# Altium footprint library KC2520K24P5760C1GE00.PcbLib: 1 footprints
Each footprint in its own frame and in the unit in brackets; x right, y up, seen from the top. Pads: shape width x height; smd on the part's side, far side on the other; paste and mask are expansions set on the pad; w line width, h text height; cw(c..) or ccw(c..) is an arc to the next point about the centre after c.
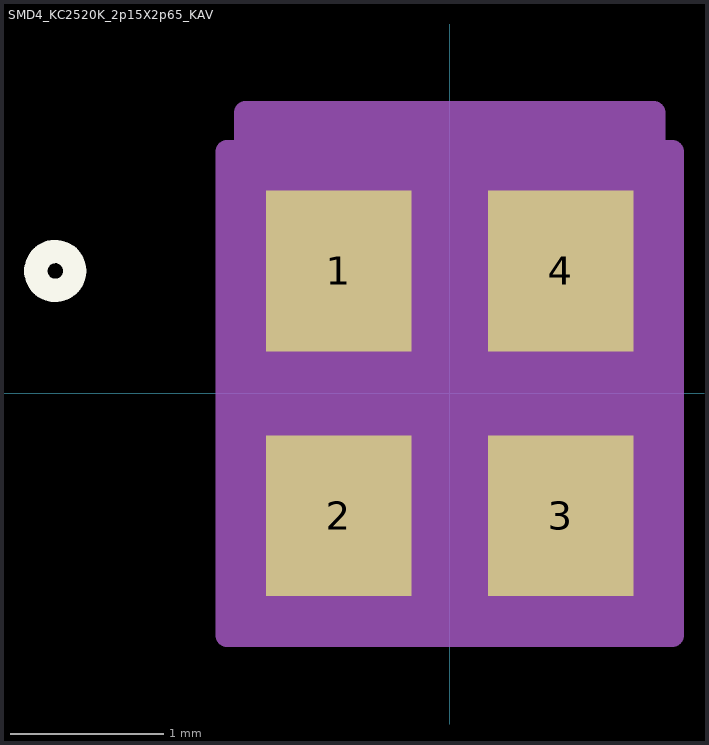
[diagram p0: the footprint, top view; thin cyan lines are the x and y axes]

## SMD4_KC2520K_2p15X2p65_KAV [mm]
pads (4):
  rect 0.95x1.05 smd paste-0.475 mask+0: 1(-0.725,0.8) 2(-0.725,-0.8) 3(0.725,-0.8) 4(0.725,0.8)
Top Overlay:
  circle w0.152: c-2.577,0.8 r0.127
  text ".Designator" at -3.492,-0.635 h1.27
Mechanical 13:
  circle w0.025: c-0.25,0.8 r0.076
  lines w0.025: -0.305,1.321 ccw(c0,1.321) 0.305,1.321 ; -1.079,-1.321 1.079,-1.321 1.079,1.321 -1.079,1.321 -1.079,-1.321
  text ".Designator" at -3.492,-0.635 h1.27
Mechanical 15:
  region: -1.333,-1.579 -1.454,-1.579 -1.454,1.579 -1.333,1.579 -1.333,1.833 1.333,1.833 1.333,1.579 1.454,1.579 1.454,-1.579 1.333,-1.579
  lines w0.152: -1.333,-1.579 -1.454,-1.579 -1.454,1.579 -1.333,1.579 -1.333,1.833 1.333,1.833 1.333,1.579 1.454,1.579 1.454,-1.579 1.333,-1.579 ; -1.333,-1.579 -1.333,-1.579 ; -1.333,-1.579 1.333,-1.579 ; 1.333,-1.579 1.333,-1.579
3D body "SMD4_KC2520K_2p15X2p65_KAV.step": height 0.81, standoff 0, extent -1.08,-1.321 1.08,1.321